# EAGLE library part TS3USB221A (library TS3USB221A)
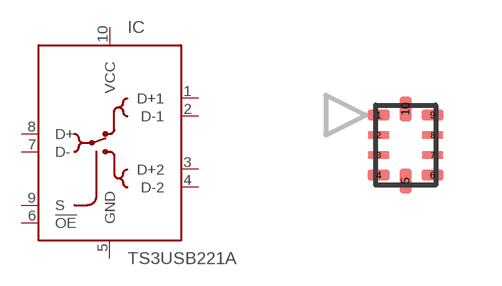
[diagram p0: symbol with the pads of UQFN-10-0.5; footprint UQFN-10-0.5]

Designator prefix IC

## TS3USB221A (MARK: LH7,LHR,LHV; MF: Texas Instruments; MPN: TS3USB221ARSER), TS3USB221AG4 (MARK: LH7,LHR,LHV; MF: Texas Instruments; MPN: TS3USB221ARSERG4)  [UQFN-10-0.5]
1  D+1
2  D-1
3  D+2
4  D-2
5  GND  pwr
6  !OE  in
7  D-
8  D+
9  S  in
10  VCC  pwr

## Footprint UQFN-10-0.5 (pad centres in mm)
smd 0.55 x 0.25: 1 -0.675,0.75; 4 -0.675,-0.75; 6 0.675,-0.75; 9 0.675,0.75
smd 0.55 x 0.2: 2 -0.675,0.25; 3 -0.675,-0.25; 7 0.675,-0.25; 8 0.675,0.25
smd 0.3 x 0.6: 5 0,-0.9; 10 0,0.9